# Altium schematic symbol library TCO Resistor + Fuse.Schlib: 1 symbol
Pins are listed as number, name and electrical type; pins without a type are passive.

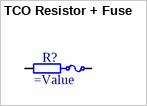
[diagram p0: symbol TCO Resistor + Fuse]

## TCO Resistor + Fuse
designator R?
Thermal Cutoff Resistor
pins: 1, 2